# EAGLE library part 59453-052110ECHLF (library 59453-052110ECHLF)
0.50mm Flex Connectors, FPC/FFC Side Entry ZIF Connector, Surface Mount, 5 Positions, Top Contact, 0.50mm (0.020in) Pitch. Source: Datasheet <https://cdn.amphenol-cs.com/media/wysiwyg/files/drawing/59453-0_2110echlf.pdf>
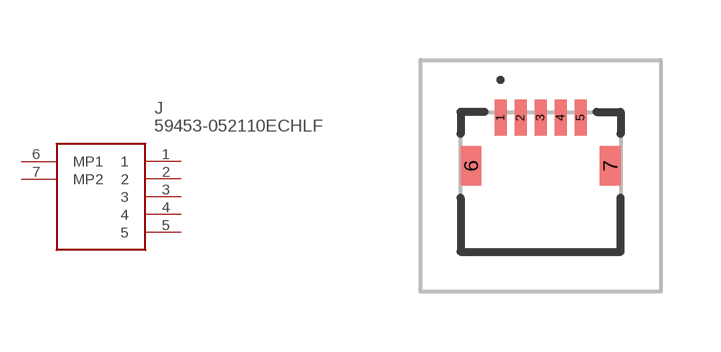
[diagram p0: symbol with the pads of 59453052110ECHLF; footprint 59453052110ECHLF]

Designator prefix J

## 59453-052110ECHLF (Description: 0.50mm Flex Connectors, FPC/FFC Side Entry ZIF Connector, Surface Mount, 5 Positions, Top Contact, 0.50mm (0.020in) Pitch.; Height: 1mm; Manufacturer_Name: Amphenol Communications Solutions; Manufacturer_Part_Number: 59453-052110ECHLF)  [59453052110ECHLF]
1  1
2  2
3  3
4  4
5  5
6  MP1
7  MP2

## Footprint 59453052110ECHLF (pad centres in mm)
59453-052110ECHLF-2
smd 0.3 x 0.9: 1 -1,1.6; 2 -0.5,1.6; 3 0,1.6; 4 0.5,1.6; 5 1,1.6
smd 0.52 x 1: 6 -1.74,0.4; 7 1.74,0.4